# Altium schematic symbol library TLV320AIC3204.SchLib: 1 symbol
Pins are listed as number, name and electrical type; pins without a type are passive.

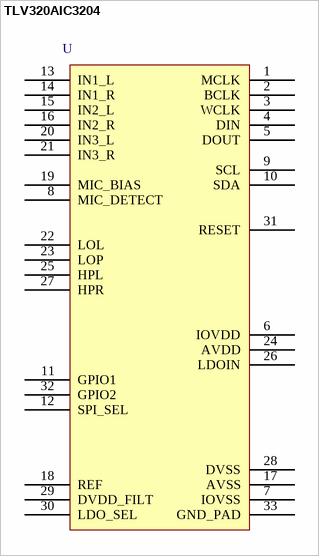
[diagram p0: symbol TLV320AIC3204]

## TLV320AIC3204
designator U  (value not drawn)
Manufacturer: Texas Instruments; Manufacturer Code: TLV320AIC3204IRHBR; Value: TLV320AIC3204; Fanell Code: 1682562; Unit Price: 6,07 €
footprint QFN-32
pins: 1 MCLK, 2 BCLK, 3 WCLK, 4 DIN, 5 DOUT, 6 IOVDD, 7 IOVSS, 8 MIC_DETECT, 9 SCL, 10 SDA, 11 GPIO1, 12 SPI_SEL, 13 IN1_L, 14 IN1_R, 15 IN2_L, 16 IN2_R, 17 AVSS, 18 REF, 19 MIC_BIAS, 20 IN3_L, 21 IN3_R, 22 LOL, 23 LOP, 24 AVDD, 25 HPL, 26 LDOIN, 27 HPR, 28 DVSS, 29 DVDD_FILT, 30 LDO_SEL, 31 RESET, 32 GPIO2, 33 GND_PAD